# Altium footprint library dpfootprint.PcbLib: 90 footprints (part 3 of 6)
Each footprint in its own frame and in the unit in brackets; x right, y up, seen from the top. Pads: shape width x height; smd on the part's side, far side on the other; paste and mask are expansions set on the pad; w line width, h text height; cw(c..) or ccw(c..) is an arc to the next point about the centre after c.
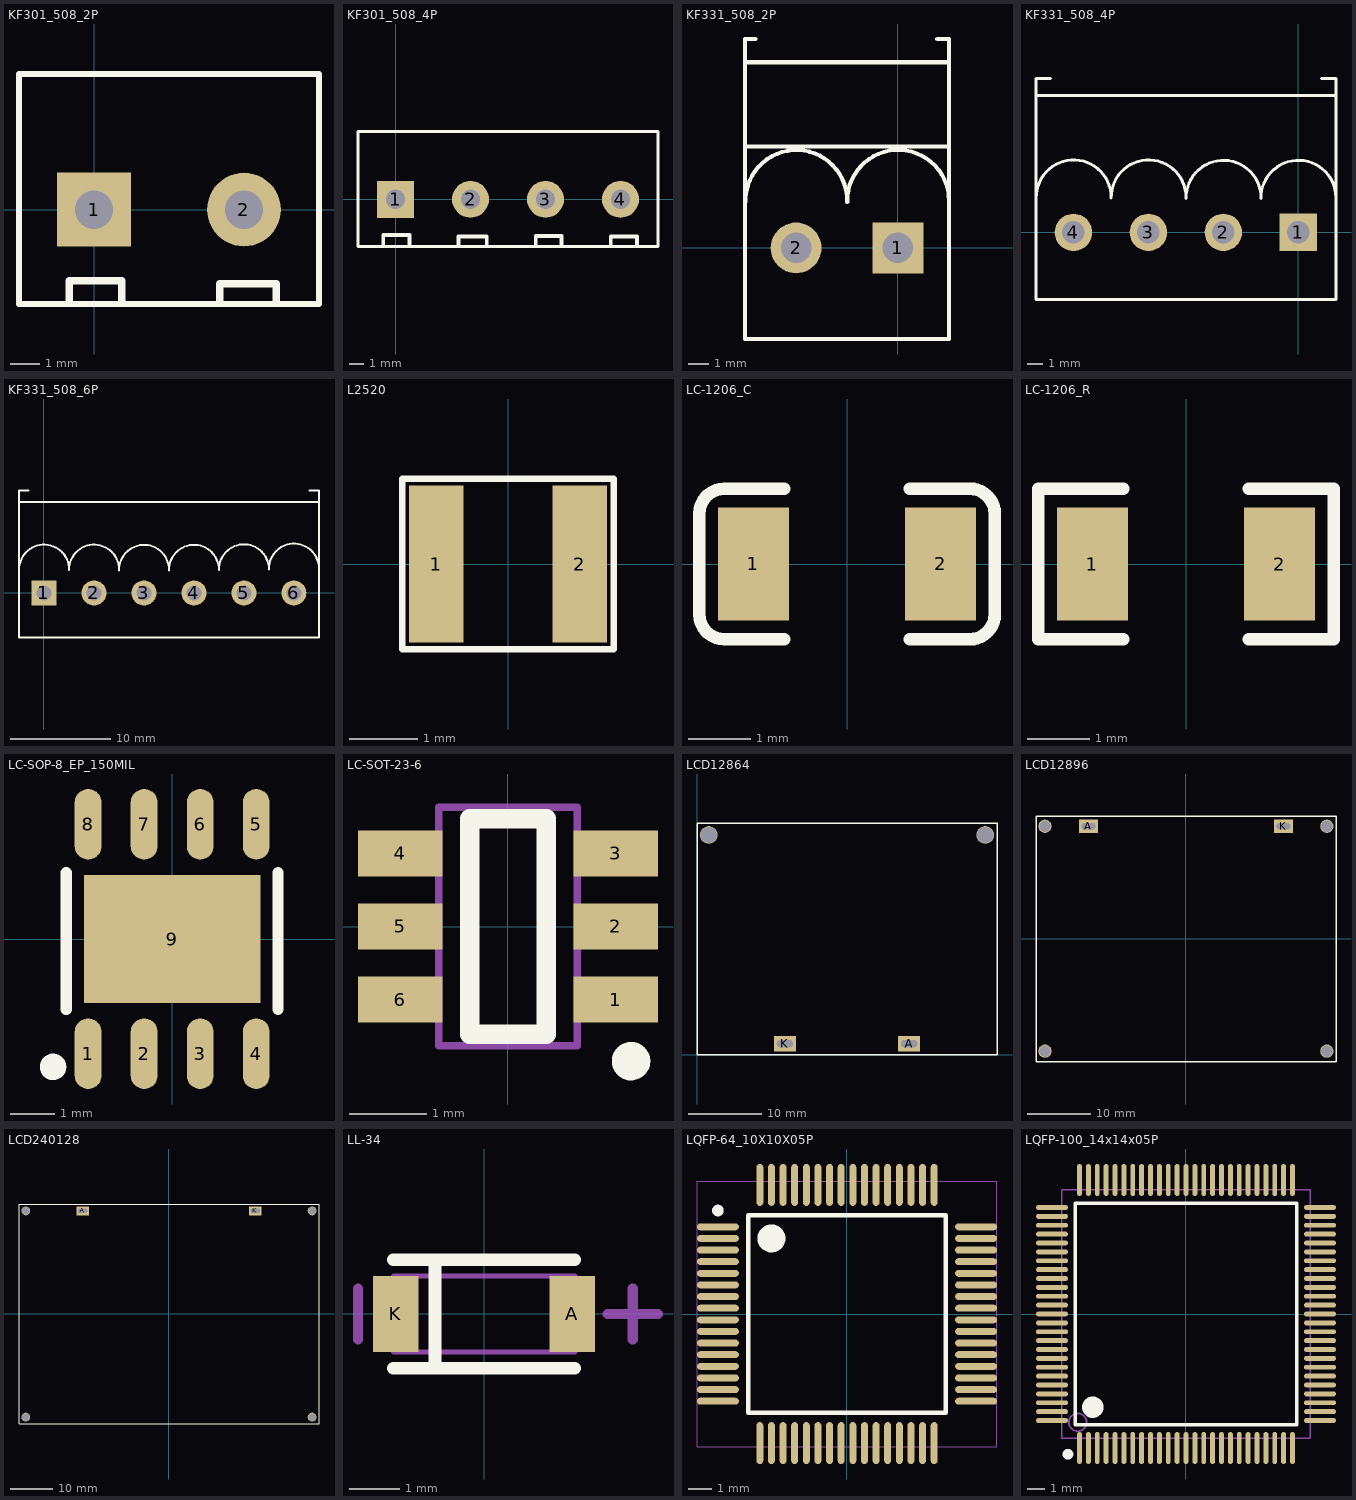
[diagram p2: the footprints below, top view; thin cyan lines are the x and y axes]

## KF301_508_2P [mm]
pads (2):
  rect 2.5x2.5 hole 1.3: 1(0,0)
  round 2.5 hole 1.3: 2(5.08,0)
Top Overlay:
  lines w0.2: -2.54,-3.2 -2.54,4.597 7.62,4.597 7.62,-3.2 -2.54,-3.2
  lines w0.254: -0.838,-3.175 -0.838,-2.413 0.94,-2.413 0.94,-3.175 ; 4.267,-3.15 4.267,-2.515 6.172,-2.515 6.172,-3.175

## KF301_508_4P [mm]
pads (4):
  rect 2.5x2.5 hole 1.3: 1(0,0)
  round 2.5 hole 1.3: 2(5.08,0) 3(10.16,0) 4(15.24,0)
Top Overlay:
  lines w0.2: -2.54,-3.2 -2.54,4.597 17.78,4.597 17.78,-3.2 -2.54,-3.2
  lines w0.254: -0.838,-3.175 -0.838,-2.413 0.94,-2.413 0.94,-3.175 ; 4.267,-3.15 4.267,-2.515 6.172,-2.515 6.172,-3.175 ; 9.5,-3.15 9.5,-2.489 11.252,-2.489 11.252,-3.15 ; 14.58,-3.15 14.58,-2.515 16.358,-2.515 16.358,-3.15

## KF331_508_2P [mm]
pads (2):
  rect 2.5x2.5 hole 1.5: 1(0,0)
  round 2.5 hole 1.5: 2(-5,0)
Top Overlay:
  lines w0.2: -7.518,4.724 -7.518,-4.47 ; -7.518,9.119 2.438,9.119 ; -7.489,2.258 cw(c-4.989,2.311) -2.489,2.311 ; -7.468,4.978 2.515,4.978 ; -6.985,10.262 -7.518,10.262 -7.518,-4.47 ; -2.489,2.261 cw(c0.01,2.314) 2.51,2.314 ; 1.93,10.262 2.515,10.262 2.515,4.978 ; -7.518,-4.47 2.515,-4.47 2.515,4.978

## KF331_508_4P [mm]
pads (4):
  rect 2.5x2.5 hole 1.5: 1(0,0)
  round 2.5 hole 1.5: 2(-5,0) 3(-10,0) 4(-15,0)
Top Overlay:
  lines w0.2: -17.501,9.119 2.515,9.119 ; -17.485,2.284 cw(c-14.986,2.337) -12.486,2.337 ; -16.535,10.262 -17.501,10.262 -17.501,4.724 -17.501,-4.47 2.515,-4.47 2.515,4.978 2.515,10.262 1.549,10.262 ; -12.488,2.281 cw(c-9.989,2.334) -7.489,2.334 ; -7.489,2.258 cw(c-4.989,2.311) -2.489,2.311 ; -2.489,2.261 cw(c0.01,2.314) 2.51,2.314

## KF331_508_6P [mm]
pads (6):
  rect 2.5x2.5 hole 1.5: 1(0,0)
  round 2.5 hole 1.5: 2(5,0) 3(10,0) 4(15,0) 5(20,0) 6(25,0)
Top Overlay:
  lines w0.2: -2.501,9.119 27.432,9.119 ; -2.485,2.284 cw(c0.014,2.337) 2.514,2.337 ; -1.535,10.262 -2.501,10.262 -2.501,4.724 -2.501,-4.47 27.508,-4.47 27.508,10.262 26.568,10.262 ; 2.512,2.281 cw(c5.011,2.334) 7.511,2.334 ; 7.511,2.258 cw(c10.011,2.311) 12.511,2.311 ; 12.511,2.261 cw(c15.01,2.314) 17.51,2.314 ; 17.515,2.311 cw(c20.014,2.365) 22.514,2.365 ; 22.518,2.388 cw(c25.018,2.441) 27.518,2.441

## L2520 [mil] "L2520"
pads (2):
  rect 31.5x90.55 smd: 1(-41.34,0) 2(41.34,0)
Top Overlay:
  lines w3.94: -61.02,-49.21 61.02,-49.21 61.02,49.21 -61.02,49.21 -61.02,-49.21

## LC-1206_C [mm]
pads (2):
  rect 1.13x1.8 smd: 1(-1.49,0) 2(1.49,0)
Top Overlay:
  lines w0.2: -1,-1.2 -1.955,-1.2 cw(c-1.955,-0.8) -2.355,-0.8 -2.355,0.8 cw(c-1.955,0.8) -1.955,1.2 -1,1.2 ; 1,-1.2 1.955,-1.2 ccw(c1.955,-0.8) 2.355,-0.8 2.355,0.8 ccw(c1.955,0.8) 1.955,1.2 1,1.2
3D body: height 1, standoff 0, extent -1.602,-0.813 1.598,0.787

## LC-1206_R [mm] "LC-1206_R"
pads (2):
  rect 1.13x1.8 smd: 1(-1.49,0) 2(1.49,0)
Top Overlay:
  lines w0.2: -1,-1.2 -2.355,-1.2 -2.355,1.2 -1,1.2 ; 1,-1.2 2.355,-1.2 2.355,1.2 1,1.2

## LC-SOP-8_EP_150MIL [mil] "LC-SOP-8_EP_150MIL"
pads (9):
  oval 24x63 smd: 1(-75,-102.36) 2(-25,-102.36) 3(25,-102.36) 4(75,-102.36) 5(75,102.36) 6(25,102.36) 7(-25,102.36) 8(-75,102.36)
  rect 157.48x114.17 smd: 9(0,0)
Top Overlay:
  circle w11.81: c-106.3,-114.17 r5.91
  lines w10: -94.49,-62.99 -94.49,59.06 ; 94.49,-62.99 94.49,59.06
Top Paste:
  pour cut-out: 30,-10 30,-50 70,-50 70,-10
  pour cut-out: -20,-10 -20,-50 20,-50 20,-10
  pour cut-out: -70,-10 -70,-50 -30,-50 -30,-10
  pour cut-out: 30,50 30,10 70,10 70,50
  pour cut-out: -20,50 -20,10 20,10 20,50
  pour cut-out: -70,50 -70,10 -30,10 -30,50
Mechanical 9:
  text "7" at -36.2,102.36 h28
  text "2" at -36.2,-102.36 h28
  text "8" at -86.2,102.36 h28
  text "5" at 63.8,102.36 h28
  text "1" at -86.2,-102.36 h28
  text "3" at 13.8,-102.36 h28
  text "4" at 63.8,-102.36 h28
  text "6" at 13.8,102.36 h28

## LC-SOT-23-6 [mm]
pads (6):
  rect 1.1x0.6 smd: 1(1.4,-0.95) 2(1.4,0) 3(1.4,0.95) 4(-1.4,0.95) 5(-1.4,0) 6(-1.4,-0.95)
Top Overlay:
  circle w0.25: c1.6,-1.75 r0.125
  lines w0.254: -0.5,-1.4 0.5,-1.4 0.5,1.4 -0.5,1.4 -0.5,-1.4
Mechanical 13:
  lines w0.1: -0.9,-1.55 0.9,-1.55 0.9,1.55 -0.9,1.55 -0.9,-1.55

## LCD12864 [mm]
pads (4):
  round 2.4 hole 2.2: " "(1.6,29.9) ""(39.2,29.9)
  rect 3x2.1 hole 1 slot 2.2 at 0 deg: A(28.85,1.5) K(11.95,1.5)
Top Overlay:
  lines w0.2: 0,0 40.8,0 40.8,31.5 0,31.5 0,0

## LCD12896 [mm]
pads (6):
  round 2.1 hole 1.8: " "(-22.28,17.78) " "(22.28,-17.78) " "(22.28,17.78) ""(-22.28,-17.78)
  rect 3x2.1 hole 1 slot 2.2 at 0 deg: A(-15.4,17.78) K(15.4,17.78)
Top Overlay:
  lines w0.2: -23.698,-19.482 23.724,-19.482 23.724,19.38 -23.698,19.38 -23.698,-19.482

## LCD240128 [mm] "LCD240128"
pads (6):
  round 2.1 hole 1.8: " "(-34.15,-24.6) " "(-34.15,24.6) " "(34.15,-24.6) " "(34.15,24.6)
  rect 3x2.1 hole 1 slot 2.2 at 0 deg: A(-20.6,24.6) K(20.6,24.6)
Top Overlay:
  lines w0.2: -35.776,-26.2 -35.776,26.2 35.801,26.2 35.801,-26.2 -35.776,-26.2

## LL-34 [mm]
pads (2):
  rect 0.9x1.5 smd: A(1.75,0) K(-1.75,0)
Top Overlay:
  lines w0.254: -1.8,-1.075 1.8,-1.075 ; -1.8,1.075 1.8,1.075 ; -0.975,-1.075 -0.975,1.075
Mechanical 13:
  lines w0.1: -1.8,-0.75 -1.8,0.75 1.8,0.75 1.8,-0.75 -1.8,-0.75
Mechanical 15:
  lines w0.203: -2.5,-0.5 -2.5,0.5 ; 2.45,0 3.45,0 ; 2.95,-0.5 2.95,0.5

## LQFP-64_10X10X05P [mil] "LQFP-64_10X10X05P"
pads (64):
  oval 70.87x11.81 smd: 1(-218.5,147.64) 2(-218.5,127.95) 3(-218.5,108.27) 4(-218.5,88.58) 5(-218.5,68.9) 6(-218.5,49.21) 7(-218.5,29.53) 8(-218.5,9.84) 9(-218.5,-9.84) 10(-218.5,-29.53) 11(-218.5,-49.21) 12(-218.5,-68.9) 13(-218.5,-88.58) 14(-218.5,-108.27) 15(-218.5,-127.95) 16(-218.5,-147.64) 33(218.51,-147.64) 34(218.51,-127.95) 35(218.51,-108.27) 36(218.51,-88.58) 37(218.51,-68.9) 38(218.51,-49.21) 39(218.51,-29.53) 40(218.51,-9.84) 41(218.51,9.84) 42(218.51,29.53) 43(218.51,49.21) 44(218.51,68.9) 45(218.51,88.58) 46(218.51,108.27) 47(218.51,127.95) 48(218.51,147.64)
  oval 11.81x70.87 smd: 17(-147.63,-218.5) 18(-127.95,-218.5) 19(-108.26,-218.5) 20(-88.58,-218.5) 21(-68.89,-218.5) 22(-49.21,-218.5) 23(-29.52,-218.5) 24(-9.84,-218.5) 25(9.85,-218.5) 26(29.53,-218.5) 27(49.22,-218.5) 28(68.9,-218.5) 29(88.59,-218.5) 30(108.27,-218.5) 31(127.96,-218.5) 32(147.64,-218.5) 49(147.64,218.51) 50(127.96,218.51) 51(108.27,218.51) 52(88.59,218.51) 53(68.9,218.51) 54(49.22,218.51) 55(29.53,218.51) 56(9.85,218.51) 57(-9.84,218.51) 58(-29.52,218.51) 59(-49.21,218.51) 60(-68.89,218.51) 61(-88.58,218.51) 62(-108.26,218.51) 63(-127.95,218.51) 64(-147.63,218.51)
Top Overlay:
  circle w9.84: c-218.5,175.2 r4.92
  circle w23.62: c-127.95,127.95 r11.81
  lines w7.87: -167.32,-167.32 -167.32,167.32 167.33,167.32 167.33,-167.32 -167.32,-167.32
Mechanical 9:
  text "10" at -240.9,-29.53 h28
Mechanical 12:
  lines w1: -253.93,-224.41 -253.93,224.41 253.94,224.41 253.94,-224.41 -253.93,-224.41

## LQFP-100_14x14x05P [mm]
pads (100):
  oval 0.28x1.8 smd mask+0.051: 1(-6,-7.55) 2(-5.5,-7.55) 3(-5,-7.55) 4(-4.5,-7.55) 5(-4,-7.55) 6(-3.5,-7.55) 7(-3,-7.55) 8(-2.5,-7.55) 9(-2,-7.55) 10(-1.5,-7.55) 11(-1,-7.55) 12(-0.5,-7.55) 13(0,-7.55) 14(0.5,-7.55) 15(1,-7.55) 16(1.5,-7.55) 17(2,-7.55) 18(2.5,-7.55) 19(3,-7.55) 20(3.5,-7.55) 21(4,-7.55) 22(4.5,-7.55) 23(5,-7.55) 24(5.5,-7.55) 25(6,-7.55) 51(6,7.55) 52(5.5,7.55) 53(5,7.55) 54(4.5,7.55) 55(4,7.55) 56(3.5,7.55) 57(3,7.55) 58(2.5,7.55) 59(2,7.55) 60(1.5,7.55) 61(1,7.55) 62(0.5,7.55) 63(0,7.55) 64(-0.5,7.55) 65(-1,7.55) 66(-1.5,7.55) 67(-2,7.55) 68(-2.5,7.55) 69(-3,7.55) 70(-3.5,7.55) 71(-4,7.55) 72(-4.5,7.55) 73(-5,7.55) 74(-5.5,7.55) 75(-6,7.55)
  oval 1.8x0.28 smd mask+0.051: 26(7.55,-6) 27(7.55,-5.5) 28(7.55,-5) 29(7.55,-4.5) 30(7.55,-4) 31(7.55,-3.5) 32(7.55,-3) 33(7.55,-2.5) 34(7.55,-2) 35(7.55,-1.5) 36(7.55,-1) 37(7.55,-0.5) 38(7.55,0) 39(7.55,0.5) 40(7.55,1) 41(7.55,1.5) 42(7.55,2) 43(7.55,2.5) 44(7.55,3) 45(7.55,3.5) 46(7.55,4) 47(7.55,4.5) 48(7.55,5) 49(7.55,5.5) 50(7.55,6) 76(-7.55,6) 77(-7.55,5.5) 78(-7.55,5) 79(-7.55,4.5) 80(-7.55,4) 81(-7.55,3.5) 82(-7.55,3) 83(-7.55,2.5) 84(-7.55,2) 85(-7.55,1.5) 86(-7.55,1) 87(-7.55,0.5) 88(-7.55,0) 89(-7.55,-0.5) 90(-7.55,-1) 91(-7.55,-1.5) 92(-7.55,-2) 93(-7.55,-2.5) 94(-7.55,-3) 95(-7.55,-3.5) 96(-7.55,-4) 97(-7.55,-4.5) 98(-7.55,-5) 99(-7.55,-5.5) 100(-7.55,-6)
Top Overlay:
  circle w0.6: c-5.25,-5.25 r0.3
  circle w0.3: c-6.65,-7.9 r0.15
  lines w0.2: -6.25,-6.25 -6.25,6.25 6.25,6.25 6.25,-6.25 -6.25,-6.25
Mechanical 13:
  circle w0.1: c-6.1,-6.1 r0.5
  lines w0.1: -7,-7 -7,7 7,7 7,-7 -7,-7